# EAGLE library part CONN (library ConV4)
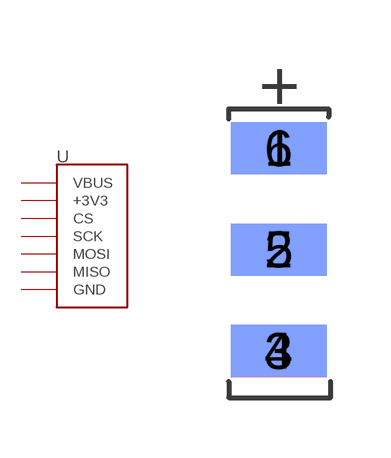
[diagram p0: symbol with the pads of CON6; footprint CON6]

Designator prefix -

## CONN  [CON6]
1  VBUS  pwr
2  +3V3  pwr
3  CS
4  SCK
5  MOSI
6  MISO

## Footprint CON6 (pad centres in mm)
smd 2.4 x 1.3: 1 0,2.54; 2 0,0; 3 0,-2.54
smd 2.4 x 1.3 bottom: 4 0,-2.53; 5 0,0; 6 0,2.53